# Altium footprint library NEC RF LIB.PcbLib: 5 footprints
Each footprint in its own frame and in the unit in brackets; x right, y up, seen from the top. Pads: shape width x height; smd on the part's side, far side on the other; paste and mask are expansions set on the pad; w line width, h text height; cw(c..) or ccw(c..) is an arc to the next point about the centre after c.
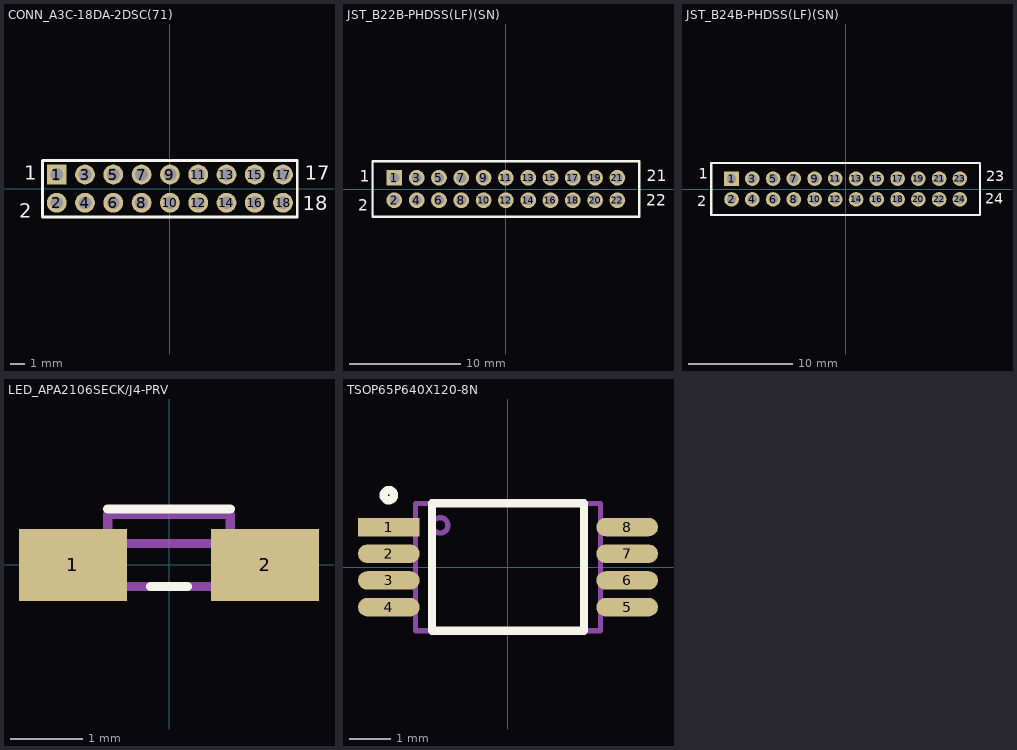
[diagram p0: the footprints below, top view; thin cyan lines are the x and y axes]

## CONN_A3C-18DA-2DSC(71) [mm] "CONN RCPT 18POS 0.079 GOLD PCB"
height 4.2
pads (18):
  rect 1.4x1.4 hole 0.9 mask+0.076: 1(-8,1)
  round 1.4 hole 0.9 mask+0.076: 2(-8,-1) 3(-6,1) 4(-6,-1) 5(-4,1) 6(-4,-1) 7(-2,1) 8(-2,-1) 9(0,1) 10(0,-1) 11(2,1) 12(2,-1) 13(4,1) 14(4,-1) 15(6,1) 16(6,-1) 17(8,1) 18(8,-1)
Top Overlay:
  lines w0.203: -9,-2 9,-2 9,2 -9,2 -9,-2
  text "1" at -10.286,0.619 h1.02
  text "2" at -10.667,-2.048 h1.02
  text "17" at 9.525,0.635 h1.02
  text "18" at 9.398,-1.524 h1.02
Mechanical 1:
  text "'.Designator'" at 0,0 h1.52
Mechanical 15:
  circle w0.254: c-8,1 r0.105
  lines w0.127: -9,-2 -9,2 9,2 9,-2 -9,-2
3D body "A3C-18DA-2DSC.stp": height 4.3, standoff -1.9, extent -9.017,-2 8.983,2

## JST_B22B-PHDSS(LF)(SN) [mm] "CONN HEADER VERT 22POS 2MM"
height 6.5
pads (22):
  rect 1.41x1.41 hole 0.91 mask+0.051: 1(-10,1)
  round 1.41 hole 0.91 mask+0.051: 2(-10,-1) 3(-8,1) 4(-8,-1) 5(-6,1) 6(-6,-1) 7(-4,1) 8(-4,-1) 9(-2,1) 10(-2,-1) 11(0,1) 12(0,-1) 13(2,1) 14(2,-1) 15(4,1) 16(4,-1) 17(6,1) 18(6,-1) 19(8,1) 20(8,-1) 21(10,1) 22(10,-1)
Top Overlay:
  lines w0.203: -11.95,-2.5 11.95,-2.5 11.95,2.5 -11.95,2.5 -11.95,-2.5
  text "1" at -13.106,0.66 h1.02
  text "2" at -13.259,-1.93 h1.02
  text "21" at 12.624,0.686 h1.02
  text "22" at 12.573,-1.499 h1.02
Mechanical 1:
  text "'.Designator'" at 0,0 h1.52
Mechanical 15:
  circle w0.127: c-10,1 r0.359
  lines w0.127: -11.95,-2.5 11.95,-2.5 11.95,2.5 -11.95,2.5 -11.95,-2.5
3D body "B22B-PHDSS.STEP": height 6.5, standoff -3, extent -11.976,-2.525 11.925,2.475

## JST_B24B-PHDSS(LF)(SN) [mm]
height 6.5
pads (24):
  rect 1.41x1.41 hole 0.91 mask+0.051: 1(-11,1)
  round 1.41 hole 0.91 mask+0.051: 2(-11,-1) 3(-9,1) 4(-9,-1) 5(-7,1) 6(-7,-1) 7(-5,1) 8(-5,-1) 9(-3,1) 10(-3,-1) 11(-1,1) 12(-1,-1) 13(1,1) 14(1,-1) 15(3,1) 16(3,-1) 17(5,1) 18(5,-1) 19(7,1) 20(7,-1) 21(9,1) 22(9,-1) 23(11,1) 24(11,-1)
Top Overlay:
  lines w0.203: -12.95,-2.5 -12.95,2.5 12.95,2.5 12.95,-2.5 -12.95,-2.5
  text "1" at -14.173,0.965 h1.02
  text "2" at -14.326,-1.651 h1.02
  text "23" at 13.563,0.753 h1.02
  text "24" at 13.436,-1.406 h1.02
Mechanical 1:
  text "'.Designator'" at 0,0 h1.52
Mechanical 15:
  circle w0.127: c-11,1 r0.359
  lines w0.127: -12.95,-2.5 -12.95,2.5 12.95,2.5 12.95,-2.5 -12.95,-2.5
3D body "B24B-PHDSS.STEP": height 6.5, standoff -3, extent -12.95,-2.5 12.95,2.5
3D body: height 6.5, standoff 0, extent -12.95,-2.5 12.95,2.5

## LED_APA2106SECK/J4-PRV [mm] "LED ORANGE CLEAR SMD R/A"
height 0.6
pads (2):
  rect 1.5x1 smd: 1(-1.333,0) 2(1.333,0)
Top Overlay:
  lines w0.127: -0.85,0.777 0.85,0.777 ; -0.254,-0.3 0.254,-0.3
Mechanical 1:
  text "'.Designator'" at 0,0 h1.52
Mechanical 15:
  rectangle: -1.05,-0.3 -0.635,0.3
  lines w0.127: -0.85,0.3 -0.85,0.701 0.823,0.701 ; 0.85,0.3 0.85,0.701 ; -1.05,-0.3 -1.05,0.3 1.05,0.3 1.05,-0.3 -1.05,-0.3
3D body "APA2107.STEP": height 0.61, standoff 0.01, extent -1.05,-0.3 1.05,0.701

## TSOP65P640X120-8N [mm] "TSOP, 8-Leads, Body 3.00x4.40mm, Pitch 0.65mm, IPC Medium Density"
height 1.2
pads (8):
  rect 1.5x0.45 smd mask+0.051: 1(-2.9,0.975)
  oval 1.5x0.45 smd mask+0.051: 2(-2.9,0.325) 3(-2.9,-0.325) 4(-2.9,-0.975) 5(2.9,-0.975) 6(2.9,-0.325) 7(2.9,0.325) 8(2.9,0.975)
Top Overlay:
  circle w0.203: c-2.9,1.75 r0.125
  lines w0.203: -1.85,-1.55 1.85,-1.55 1.85,1.55 -1.85,1.55 -1.85,-1.55
Mechanical 1:
  text "'.Designator'" at 0,0 h1.02
Mechanical 15:
  circle w0.127: c-1.651,1.016 r0.188
  lines w0.127: -2.25,-1.55 2.25,-1.55 2.25,1.55 -2.25,1.55 -2.25,-1.55
3D body "TSOP65P640X120-8N.step": height 1.2, standoff 0, extent -3.2,-1.55 3.2,1.55